# Altium footprint library footprints.PcbLib: 17 footprints (part 1 of 2)
Each footprint in its own frame and in the unit in brackets; x right, y up, seen from the top. Pads: shape width x height; smd on the part's side, far side on the other; paste and mask are expansions set on the pad; w line width, h text height; cw(c..) or ccw(c..) is an arc to the next point about the centre after c.
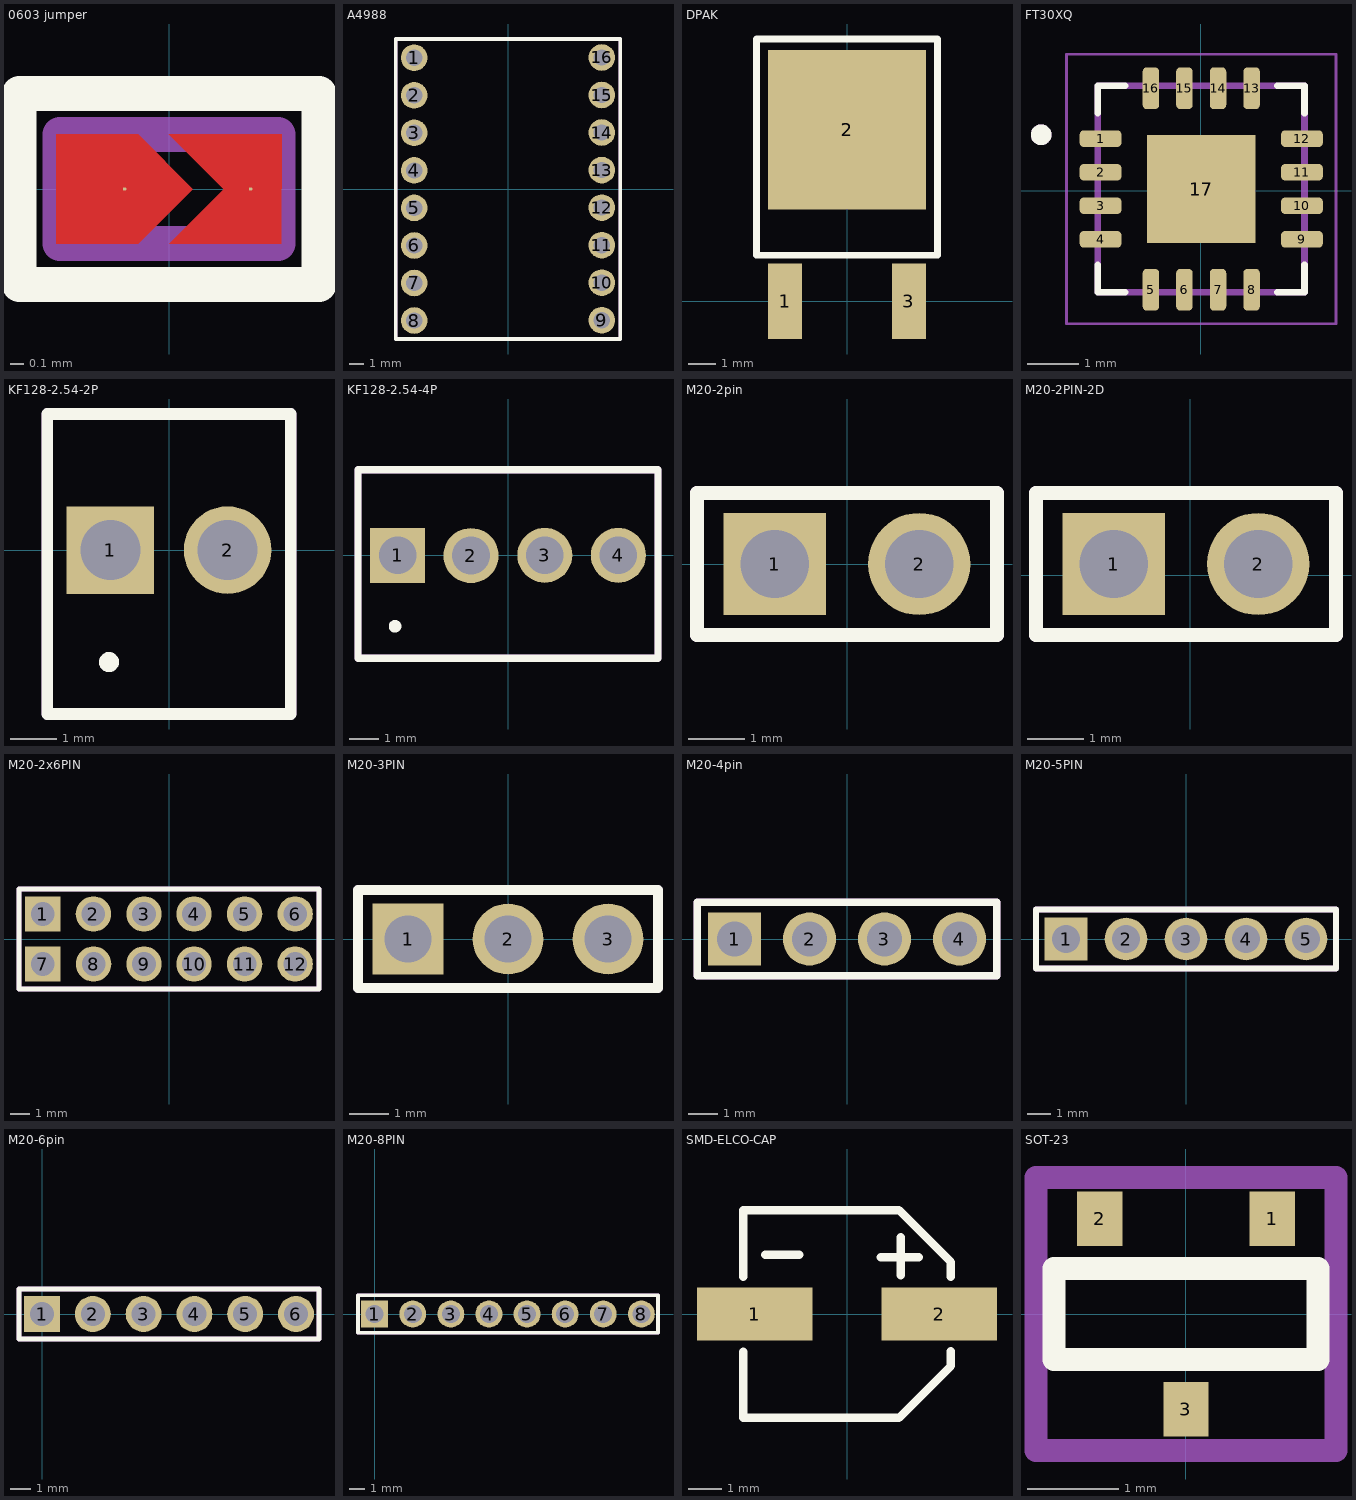
[diagram p0: the footprints below, top view; thin cyan lines are the x and y axes]

## 0603 jumper [mil]
pads (2):
  round 1 smd: 1(-12.8,0) 2(23.62,0)
Top Layer:
  region: 15.75,0 0,-15.75 32.48,-15.75 32.48,15.75 0,15.75 8.86,6.89
  region: -32.48,-15.75 -32.48,15.75 -8.86,15.75 6.89,0 -8.86,-15.75
Top Overlay:
  lines w10: -43.31,-27.56 43.31,-27.56 43.31,27.56 -43.31,27.56 -43.31,-27.56
Mechanical 15:
  lines w10: -31.5,-15.75 31.5,-15.75 31.5,15.75 -31.5,15.75 -31.5,-15.75

## A4988 [mm] "stepper driver"
pads (16):
  round 1.8 hole 1.1: 1(-6.35,8.88) 2(-6.35,6.34) 3(-6.35,3.8) 4(-6.35,1.26) 5(-6.35,-1.28) 6(-6.35,-3.82) 7(-6.35,-6.36) 8(-6.35,-8.9) 9(6.35,-8.88) 10(6.35,-6.34) 11(6.35,-3.8) 12(6.35,-1.26) 13(6.35,1.28) 14(6.35,3.82) 15(6.35,6.36) 16(6.35,8.9)
Top Overlay:
  lines w0.254: -7.6,-10.15 7.6,-10.15 7.6,10.15 -7.6,10.15 -7.6,-10.15
Mechanical 1:
  circle w0.254: c-6.35,8.88 r0.127
  circle w0.254: c6.35,-8.88 r0.127
  lines w0.254: -7.6,-10.15 7.6,-10.15 7.6,10.15 -7.6,10.15 -7.6,-10.15
3D body "A4988-Stepper-Driver-WithPins.stp": height 9.7, standoff -1.5, extent -7.48,-10.16 7.48,10.16

## DPAK [mm]
pads (3):
  rect 1.26x2.8 smd: 1(-2.286,0) 3(2.286,0)
  rect 5.832x5.9 smd: 2(0,6.35)
Top Overlay:
  lines w0.254: -3.35,1.7 3.35,1.7 3.35,9.7 -3.35,9.7 -3.35,1.7
3D body "Dpak.STEP": height 2.32, standoff 0, extent -3.316,-1.211 3.416,9.182

## FT30XQ [mm]
pads (17):
  rrect50% 0.81x0.32 smd: 1(-1.94,1.007) 2(-1.94,0.357) 3(-1.94,-0.293) 4(-1.94,-0.943) 9(1.96,-0.943) 10(1.96,-0.293) 11(1.96,0.357) 12(1.96,1.007)
  rrect50% 0.32x0.81 smd: 5(-0.965,-1.918) 6(-0.315,-1.918) 7(0.335,-1.918) 8(0.985,-1.918) 13(0.985,1.982) 14(0.335,1.982) 15(-0.315,1.982) 16(-0.965,1.982)
  rect 2.1x2.1 smd paste-2: 17(0.01,0.032)
Top Overlay:
  circle w0.2: c-3.09,1.082 r0.1
  lines w0.127: -1.99,-1.438 -1.99,-1.968 -1.46,-1.968 ; -1.99,1.502 -1.99,2.032 -1.46,2.032 ; 1.48,-1.968 2.01,-1.968 2.01,-1.438 ; 1.48,2.032 2.01,2.032 2.01,1.502
Top Paste:
  region: -0.12,0.162 -0.78,0.162 -0.78,0.822 -0.12,0.822
  region: 0.8,0.162 0.14,0.162 0.14,0.822 0.8,0.822
  region: 0.8,-0.758 0.14,-0.758 0.14,-0.098 0.8,-0.098
  region: -0.12,-0.758 -0.78,-0.758 -0.78,-0.098 -0.12,-0.098
Mechanical 13:
  circle w0.2: c-3.09,1.082 r0.1
  lines w0.127: -1.99,-1.968 2.01,-1.968 2.01,2.032 -1.99,2.032 -1.99,-1.968
Mechanical 15:
  lines w0.05: -2.6,-2.578 2.62,-2.578 2.62,2.642 -2.6,2.642 -2.6,-2.578
3D body "step_temp.STEP": height 0.8, standoff 0, extent -1.99,-1.968 2.01,2.032

## KF128-2.54-2P [mm]
pads (2):
  rect 1.9x1.9 hole 1.3: 1(-1.27,0)
  round 1.9 hole 1.3: 2(1.27,0)
Top Overlay:
  circle w0.254: c-1.3,-2.425 r0.09
  lines w0.254: -2.64,-3.55 2.64,-3.55 2.64,2.95 -2.64,2.95 -2.64,-3.55
Mechanical 1:
  lines w0.254: -2.64,-3.55 2.64,-3.55 2.64,2.95 -2.64,2.95 -2.64,-3.55
3D body "KF128-2.54-2P.step": height 8.7, standoff -3.55, extent -2.74,-3.5 2.74,3

## KF128-2.54-4P [mm]
pads (4):
  rect 1.9x1.9 hole 1.3: 1(-3.81,0)
  round 1.9 hole 1.3: 2(-1.279,-0.009) 3(1.27,0) 4(3.81,0)
Top Overlay:
  circle w0.254: c-3.9,-2.45 r0.09
  lines w0.254: -5.18,-3.55 5.18,-3.55 5.18,2.95 -5.18,2.95 -5.18,-3.55
Mechanical 1:
  lines w0.254: -5.18,-3.55 5.18,-3.55 5.18,2.95 -5.18,2.95 -5.18,-3.55
3D body "KF128-2.54-4P.step": height 8.7, standoff -3.55, extent -5.18,-3.55 5.38,2.95

## M20-2pin [mm]
pads (2):
  rect 1.8x1.8 hole 1.2: 1(-1.27,0)
  round 1.8 hole 1.2: 2(1.27,0)
Top Overlay:
  lines w0.254: -2.64,-1.25 2.64,-1.25 2.64,1.25 -2.64,1.25 -2.64,-1.25
Mechanical 1:
  lines w0.254: -2.64,-1.25 2.64,-1.25 2.64,1.25 -2.64,1.25 -2.64,-1.25
3D body "head_f_2p.step": height 7, standoff -3.1, extent -2.54,-1.27 2.54,1.27

## M20-2PIN-2D [mm]
pads (2):
  rect 1.8x1.8 hole 1.2: 1(-1.345,0.2)
  round 1.8 hole 1.2: 2(1.195,0.2)
Top Overlay:
  lines w0.254: -2.715,-1.05 2.565,-1.05 2.565,1.45 -2.715,1.45 -2.715,-1.05
Mechanical 1:
  lines w0.254: -2.715,-1.05 2.565,-1.05 2.565,1.45 -2.715,1.45 -2.715,-1.05

## M20-2x6PIN [mm]
pads (12):
  rect 1.8x1.8 hole 1.2: 1(-6.41,1.27) 7(-6.41,-1.27)
  round 1.8 hole 1.2: 2(-3.84,1.27) 3(-1.27,1.27) 4(1.27,1.27) 5(3.84,1.27) 6(6.41,1.27) 8(-3.83,-1.27) 9(-1.27,-1.27) 10(1.27,-1.27) 11(3.84,-1.27) 12(6.41,-1.27)
Top Overlay:
  lines w0.254: -7.62,-2.54 7.62,-2.54 7.62,2.54 -7.62,2.54 -7.62,-2.54
Mechanical 1:
  lines w0.254: -7.62,-2.54 7.62,-2.54 7.62,2.54 -7.62,2.54 -7.62,-2.54
3D body "M20-6pin.step": height 8.7, standoff -2.8, extent -7.87,0.025 7.87,2.565
3D body "M20-6pin.step": height 8.7, standoff -2.8, extent -7.87,-2.54 7.87,0

## M20-3PIN [mm]
pads (3):
  rect 1.8x1.8 hole 1.2: 1(-2.54,0)
  round 1.8 hole 1.2: 2(0,0) 3(2.54,0)
Top Overlay:
  lines w0.254: -3.81,-1.25 3.81,-1.25 3.81,1.25 -3.81,1.25 -3.81,-1.25
Mechanical 1:
  lines w0.254: -3.81,-1.25 3.81,-1.25 3.81,1.25 -3.81,1.25 -3.81,-1.25

## M20-4pin [mm]
pads (4):
  rect 1.8x1.8 hole 1.2: 1(-3.81,0)
  round 1.8 hole 1.2: 2(-1.27,0) 3(1.27,0) 4(3.81,0)
Top Overlay:
  lines w0.254: -5.08,-1.25 5.08,-1.25 5.08,1.25 -5.08,1.25 -5.08,-1.25
Mechanical 1:
  lines w0.254: -5.08,-1.25 5.08,-1.25 5.08,1.25 -5.08,1.25 -5.08,-1.25
3D body "M20-7820446.stp": height 8.65, standoff -3.25, extent -5.28,-1.25 5.28,1.25

## M20-5PIN [mm]
pads (5):
  rect 1.8x1.8 hole 1.2: 1(-5.08,0)
  round 1.8 hole 1.2: 2(-2.54,0) 3(0,0) 4(2.54,0) 5(5.08,0)
Top Overlay:
  lines w0.254: -6.35,-1.25 6.35,-1.25 6.35,1.25 -6.35,1.25 -6.35,-1.25
Mechanical 1:
  lines w0.254: -6.35,-1.25 6.35,-1.25 6.35,1.25 -6.35,1.25 -6.35,-1.25

## M20-6pin [mm]
pads (6):
  rect 1.8x1.8 hole 1.2: 1(0,0)
  round 1.8 hole 1.2: 2(2.54,0) 3(5.08,0) 4(7.62,0) 5(10.16,0) 6(12.7,0)
Top Overlay:
  lines w0.254: -1.15,-1.25 13.85,-1.25 13.85,1.25 -1.15,1.25 -1.15,-1.25
Mechanical 1:
  lines w0.254: -1.15,-1.25 13.85,-1.25 13.85,1.25 -1.15,1.25 -1.15,-1.25
3D body "M20-6pin.step": height 8.7, standoff -2.8, extent -1.52,-1.27 14.22,1.27

## M20-8PIN [mm]
pads (8):
  rect 1.8x1.8 hole 1.2: 1(0,0)
  round 1.8 hole 1.2: 2(2.54,0) 3(5.08,0) 4(7.62,0) 5(10.16,0) 6(12.7,0) 7(15.24,0) 8(17.78,0)
Top Overlay:
  lines w0.254: -1.11,-1.25 18.89,-1.25 18.89,1.25 -1.11,1.25 -1.11,-1.25
Mechanical 1:
  lines w0.254: -1.11,-1.25 18.89,-1.25 18.89,1.25 -1.11,1.25 -1.11,-1.25
3D body "User Library-zl262-8s_p2-54_l20-82_w2-54_h8-5.step": height 8.7, standoff -2.8, extent -1.52,-1.27 19.3,1.27

## SMD-ELCO-CAP [mm]
pads (2):
  rect 3.5x1.6 smd: 1(-2.8,0) 2(2.8,0)
Top Overlay:
  lines w0.254: -3.15,-1.15 -3.15,-3.15 1.575,-3.15 3.15,-1.575 3.15,-1.125 ; -3.15,1.125 -3.15,3.125 ; -3.15,3.15 1.575,3.15 3.15,1.575 3.15,1.125 ; -2.475,1.8 -1.45,1.8 ; 1.025,1.725 2.175,1.725 ; 1.625,1.175 1.625,2.325
3D body "Aluminum Electrolytic Capacitor.STEP": height 6.32, standoff -0.24, extent -3.3,-3.3 3.3,3.3

## SOT-23 [mm] "1) Gate / 2) Source / 3) Drain"
pads (3):
  rect 0.5x0.6 smd: 1(0.95,1.05) 2(-0.95,1.05) 3(0,-1.05)
Top Overlay:
  lines w0.254: -1.45,-0.5 1.45,-0.5 1.45,0.5 -1.45,0.5 -1.45,-0.5
Mechanical 1:
  lines w0.254: -1.65,-1.5 1.65,-1.5 1.65,1.5 -1.65,1.5 -1.65,-1.5
3D body "SOT23-3.step": height 1.1, standoff 0, extent -1.499,-1.25 1.499,1.25